# EAGLE library part ISL91107IRTNZ-T7A (library ISL91107IRTNZ-T7A)
Integrated FET Regulators High Efficiency Buck-Boost Regulator with 4.1A Switches Source: Datasheet <https://www.renesas.com/en-us/www/doc/datasheet/isl91107ir.pdf>
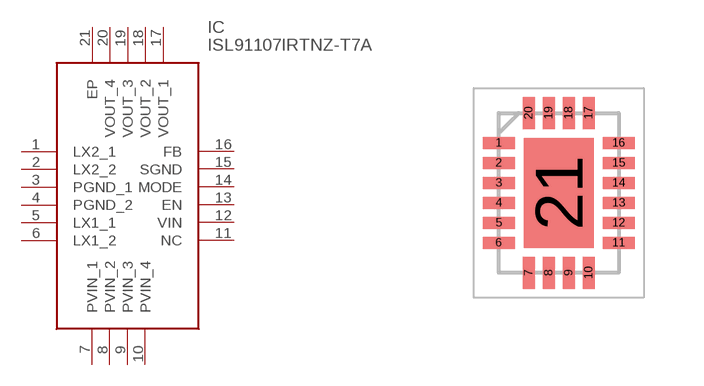
[diagram p0: symbol with the pads of QFN50P300X400X80-21N; footprint QFN50P300X400X80-21N]

Designator prefix IC

## ISL91107IRTNZ-T7A (Arrow_Part_Number: ISL91107IRTNZ-T7A; Arrow_Price-Stock: https://www.arrow.com/en/products/isl91107irtnz-t7a/renesas-electronics; Description: Integrated FET Regulators High Efficiency Buck-Boost Regulator with 4.1A Switches; Height: 0.8mm; Manufacturer_Name: Renesas Electronics; Manufacturer_Part_Number: ISL91107IRTNZ-T7A; Mouser_Part_Number: 968-ISL91107IRTNZT7A; Mouser_Price-Stock: https://www.mouser.co.uk/ProductDetail/Renesas-Intersil/ISL91107IRTNZ-T7A/?qs=DXptKE%252B5xICfvCrqtryiaQ%3D%3D)  [QFN50P300X400X80-21N]
1  LX2_1
2  LX2_2
3  PGND_1
4  PGND_2
5  LX1_1
6  LX1_2
7  PVIN_1
8  PVIN_2
9  PVIN_3
10  PVIN_4
11  NC  nc
12  VIN
13  EN
14  MODE
15  SGND
16  FB
17  VOUT_1
18  VOUT_2
19  VOUT_3
20  VOUT_4
21  EP

## Footprint QFN50P300X400X80-21N (pad centres in mm)
L20.3x4A
smd 0.8 x 0.3: 1 -1.5,1.25; 2 -1.5,0.75; 3 -1.5,0.25; 4 -1.5,-0.25; 5 -1.5,-0.75; 6 -1.5,-1.25; 11 1.5,-1.25; 12 1.5,-0.75; 13 1.5,-0.25; 14 1.5,0.25; 15 1.5,0.75; 16 1.5,1.25
smd 0.3 x 0.8: 7 -0.75,-2; 8 -0.25,-2; 9 0.25,-2; 10 0.75,-2; 17 0.75,2; 18 0.25,2; 19 -0.25,2; 20 -0.75,2
smd 1.75 x 2.75: 21 0,0